# Altium schematic symbol library ADP1610ARMZ-R7.SchLib: 1 symbol
Pins are listed as number, name and electrical type; pins without a type are passive.

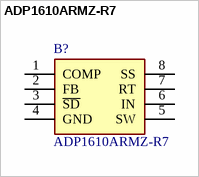
[diagram p0: symbol ADP1610ARMZ-R7]

## ADP1610ARMZ-R7
designator B?
Switching Voltage Regulators 1.2 MHz PWM Boost Switching Regulator; Manufacturer_Name: Analog Devices; Geometry.Height: 1.1mm; Mouser Part Number: 584-ADP1610ARMZ-R7; Mouser Price/Stock: https://www.mouser.co.uk/ProductDetail/Analog-Devices/ADP1610ARMZ-R7?qs=WIvQP4zGanjTQwiTj85NkQ%3D%3D; Manufacturer_Part_Number: ADP1610ARMZ-R7; Datasheet Link: https://www.analog.com/media/en/technical-documentation/data-sheets/ADP1610.pdf
footprint SOP65P490X110-8N
pins: 1 COMP, 2 FB, 3 ~{SD}, 4 GND, 5 SW, 6 IN, 7 RT, 8 SS